# EAGLE library part CON-RIBBON-14 (library sibosop)
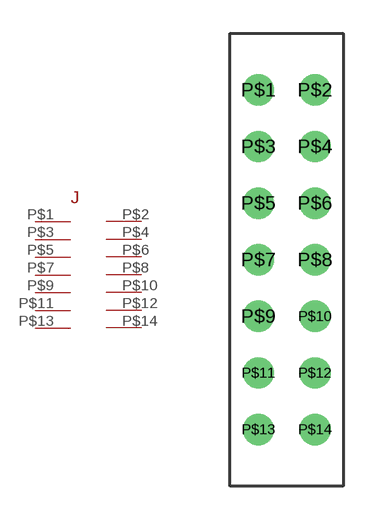
[diagram p3: symbol with the pads of CON-RIBBON-14; footprint CON-RIBBON-14]

Designator prefix J

## CON-RIBBON-14  [CON-RIBBON-14]
P$1  1
P$2  2
P$3  3
P$4  4
P$5  5
P$6  6
P$7  7
P$8  8
P$9  9
P$10  10
P$11  11
P$12  12
P$13  13
P$14  14

## Footprint CON-RIBBON-14 (pad centres in mm)
drill 0.9: P$1 -2.54,7.62; P$2 0,7.62; P$3 -2.54,5.08; P$4 0,5.08; P$5 -2.54,2.54; P$6 0,2.54; P$7 -2.54,0; P$8 0,0; P$9 -2.54,-2.54; P$10 0,-2.54; P$11 -2.54,-5.08; P$12 0,-5.08; P$13 -2.54,-7.62; P$14 0,-7.62